# EAGLE library part MPU-9250(IMU) (library PowerManagement)
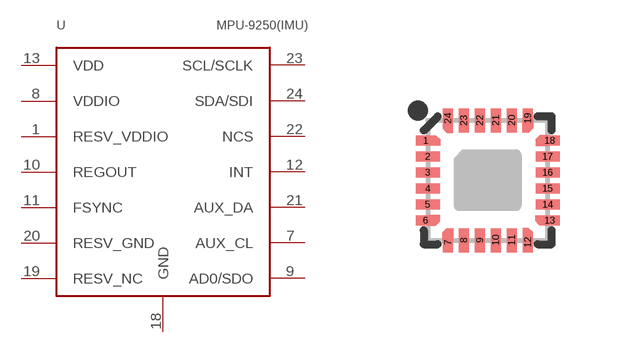
[diagram p1: symbol with the pads of QFN24-3X3; footprint QFN24-3X3]

Designator prefix U

## MPU-9250(IMU)  [QFN24-3X3]
1  RESV_VDDIO  in
7  AUX_CL
8  VDDIO  pwr
9  AD0/SDO  in
10  REGOUT  pas
11  FSYNC  pwr
12  INT  out
13  VDD  pwr
18  GND  pwr
19  RESV_NC  nc
20  RESV_GND  in
21  AUX_DA
22  NCS
23  SCL/SCLK
24  SDA/SDI

## Footprint QFN24-3X3 (pad centres in mm)
24-Pin QFN - 3.0 x 3.0 mm - No center pad Note: No center pad per "Exposed Die Pad Precautions" section of the InvenSense MEMS Handling application note <http://www.digikey.com/Web%20Export/Supplier%20Content/invensense-1428/pdf/invensense-mems-handling.pdf>.
smd 0.495 x 0.25: 1 -1.552,1; 6 -1.552,-1; 13 1.552,-1; 18 1.552,1
smd 0.6 x 0.25: 2 -1.5,0.6; 3 -1.5,0.2; 4 -1.5,-0.2; 5 -1.5,-0.6; 14 1.5,-0.6; 15 1.5,-0.2; 16 1.5,0.2; 17 1.5,0.6
smd 0.25 x 0.495: 7 -1,-1.552; 12 1,-1.552; 19 1,1.552; 24 -1,1.552
smd 0.25 x 0.6: 8 -0.6,-1.5; 9 -0.2,-1.5; 10 0.2,-1.5; 11 0.6,-1.5; 20 0.6,1.5; 21 0.2,1.5; 22 -0.2,1.5; 23 -0.6,1.5